# EAGLE library part LILYGO-T-CALL-SIM800L (library LILYGO-T-CALL-SIM800L)
ESP32 Wireless Module GPRS Antenna SIM Card SIM800L Module Check availability <https://pricing.snapeda.com/parts/LilyGo-T-Call-SIM800L/LILYGO/view-part?ref=eda>
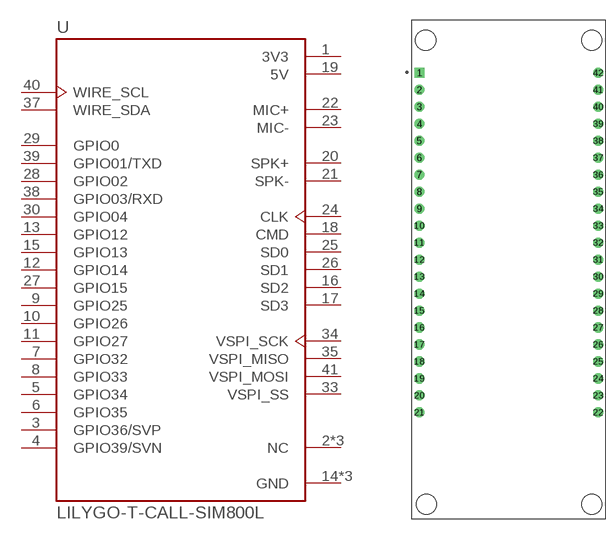
[diagram p0: symbol with the pads of XCVR_LILYGO-T-CALL-SIM800L; footprint XCVR_LILYGO-T-CALL-SIM800L]

Designator prefix U

## LILYGO-T-CALL-SIM800L (Availability: Not in stock; Description: ESP32 Wireless Module GPRS Antenna SIM Card SIM800L Module; MF: LILYGO; MP: LilyGo-T-Call-SIM800L; Package: Package; Price: None)  [XCVR_LILYGO-T-CALL-SIM800L]
1  3V3  pwr
2  NC  pwr
3  GPIO36/SVP
4  GPIO39/SVN
5  GPIO34
6  GPIO35
7  GPIO32
8  GPIO33
9  GPIO25
10  GPIO26
11  GPIO27
12  GPIO14
13  GPIO12
14  GND  pwr
15  GPIO13
16  SD2
17  SD3
18  CMD
19  5V  pwr
20  SPK+  pwr
21  SPK-  pwr
22  MIC+  pwr
23  MIC-  pwr
24  CLK  in
25  SD0
26  SD1
27  GPIO15
28  GPIO02
29  GPIO0
30  GPIO04
31  NC  pwr
32  NC  pwr
33  VSPI_SS  in
34  VSPI_SCK  in
35  VSPI_MISO  out
36  GND  pwr
37  WIRE_SDA
38  GPIO03/RXD
39  GPIO01/TXD
40  WIRE_SCL  in
41  VSPI_MOSI  in
42  GND  pwr

## Footprint XCVR_LILYGO-T-CALL-SIM800L (pad centres in mm)
drill 1 square: 1 -13.385,29.42
drill 1: 2 -13.385,26.88; 3 -13.385,24.34; 4 -13.385,21.8; 5 -13.385,19.26; 6 -13.385,16.72; 7 -13.385,14.18; 8 -13.385,11.64; 9 -13.385,9.1; 10 -13.385,6.56; 11 -13.385,4.02; 12 -13.385,1.48; 13 -13.385,-1.06; 14 -13.385,-3.6; 15 -13.385,-6.14; 16 -13.385,-8.68; 17 -13.385,-11.22; 18 -13.385,-13.76; 19 -13.385,-16.3; 20 -13.385,-18.84; 21 -13.385,-21.38; 22 13.385,-21.38; 23 13.385,-18.84; 24 13.385,-16.3; 25 13.385,-13.76; 26 13.385,-11.22; 27 13.385,-8.68; 28 13.385,-6.14; 29 13.385,-3.6; 30 13.385,-1.06; 31 13.385,1.48; 32 13.385,4.02; 33 13.385,6.56; 34 13.385,9.1; 35 13.385,11.64; 36 13.385,14.18; 37 13.385,16.72; 38 13.385,19.26; 39 13.385,21.8; 40 13.385,24.34; 41 13.385,26.88; 42 13.385,29.42
hole 3 at -12.355,-35.09
hole 3 at 12.395,-35.09
hole 3 at -12.445,34.27
hole 3 at 12.395,34.27